# EAGLE library part PCB_USB_DOUBSIDE-BACKUP (library dpx-con-CUSTOM)
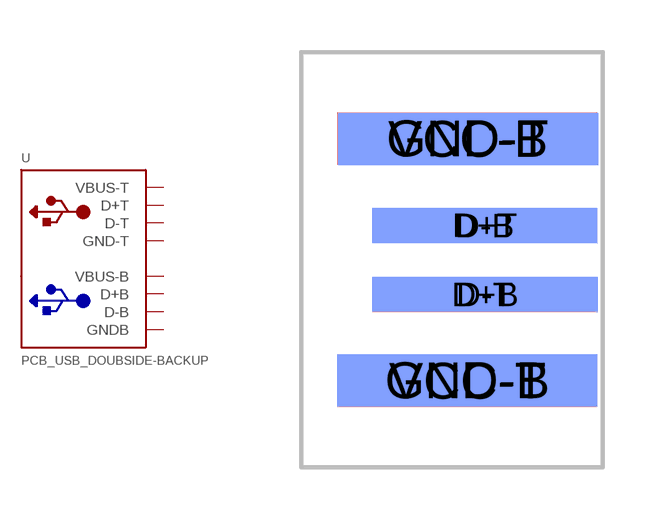
[diagram p4: symbol with the pads of USB-A-PCB-TB; footprint USB-A-PCB-TB]

Designator prefix -

## PCB_USB_DOUBSIDE-BACKUP  [USB-A-PCB-TB]
D+B  D+B
D+T  D+T
D-B  D-B
D-T  D-T
GND-B  GNDB  pwr
GND-T  GND-T  pwr
VCC-B  VBUS-B  pwr
VCC-T  VBUS-T  pwr

## Footprint USB-A-PCB-TB (pad centres in mm)
smd 6.5 x 1 bottom: D+B 0.311,-0.999; D-B 0.3,0.988
smd 6.5 x 1: D+T 0.3,1; D-T 0.3,-1
smd 7.5 x 1.5 bottom: GND-B -0.2,-3.485; VCC-B -0.181,3.485
smd 7.5 x 1.5: GND-T -0.2,3.5; VCC-T -0.2,-3.5